# EAGLE library part PLATINE_BOSCH-GEH._BF6 (library k-data Mechanik)
Bosch Platine für BMW Motorsteuergerät (0 261 203 667)
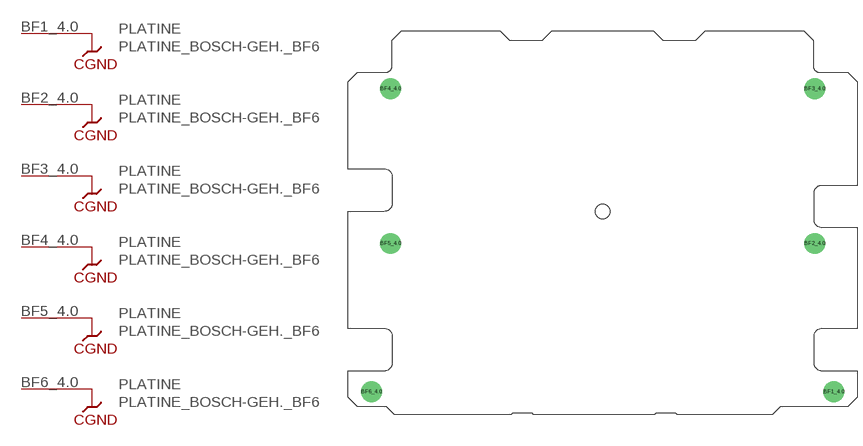
[diagram p2: symbol with the pads of PLATINE_BOSCH-GEH._BF6; footprint PLATINE_BOSCH-GEH._BF6]

Designator prefix PLATINE; gates BF1=CHASSIS_GND BF2=CHASSIS_GND BF3=CHASSIS_GND BF4=CHASSIS_GND BF5=CHASSIS_GND BF6=CHASSIS_GND

## PLATINE_BOSCH-GEH._BF6  [PLATINE_BOSCH-GEH._BF6]
BF1_4.0  BF1:CHASSIS-GND  sup
BF2_4.0  BF2:CHASSIS-GND  sup
BF3_4.0  BF3:CHASSIS-GND  sup
BF4_4.0  BF4:CHASSIS-GND  sup
BF5_4.0  BF5:CHASSIS-GND  sup
BF6_4.0  BF6:CHASSIS-GND  sup

## Footprint PLATINE_BOSCH-GEH._BF6 (pad centres in mm)
Bosch Gehäuse Platine BF6 (0 261 203 667)
drill 4 pad 6.5: BF1_4.0 72.5,7; BF2_4.0 66.5,53.5; BF3_4.0 66.5,102; BF4_4.0 -66.5,102; BF5_4.0 -66.5,53.5; BF6_4.0 -72.5,7
hole 4.5 at 0,63.5